# Altium schematic symbol library MachXO2_1200HC_6SG32C.SchLib: 1 symbol
Pins are listed as number, name and electrical type; pins without a type are passive.

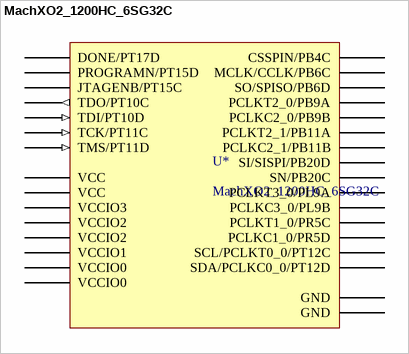
[diagram p0: symbol MachXO2_1200HC_6SG32C]

## MachXO2_1200HC_6SG32C
designator U*
footprint QFN50P500X500X65_HS-33N (QFN, 32-Leads, Body 5,00x5,00mm, Pitch 0,50mm, Thermal Pad 3,50x3,50mm, IPC Medium Density)
pins: 1 TDO/PT10C (out), 2 VCC, 3 GND, 4 PCLKT3_0/PL9A, 5 PCLKC3_0/PL9B, 6 VCCIO3, 7 VCCIO2, 8 CSSPIN/PB4C, 9 MCLK/CCLK/PB6C, 10 SO/SPISO/PB6D, 11 PCLKT2_0/PB9A, 12 PCLKC2_0/PB9B, 13 PCLKT2_1/PB11A, 14 PCLKC2_1/PB11B, 15 VCCIO2, 16 SN/PB20C, 17 SI/SISPI/PB20D, 18 VCC, 19 VCCIO1, 20 PCLKC1_0/PR5D, 21 PCLKT1_0/PR5C, 22 GND, 23 DONE/PT17D, 24 VCCIO0, 25 PROGRAMN/PT15D, 26 JTAGENB/PT15C, 27 SDA/PCLKC0_0/PT12D, 28 SCL/PCLKT0_0/PT12C, 29 TMS/PT11D (in), 30 TCK/PT11C (in), 31 VCCIO0, 32 TDI/PT10D (in)